# Altium footprint library IC_Microchip_Technology_-_Atmel_AT24CM01-XHM-T_eec_0.PcbLib: 1 footprints
Each footprint in its own frame and in the unit in brackets; x right, y up, seen from the top. Pads: shape width x height; smd on the part's side, far side on the other; paste and mask are expansions set on the pad; w line width, h text height; cw(c..) or ccw(c..) is an arc to the next point about the centre after c.
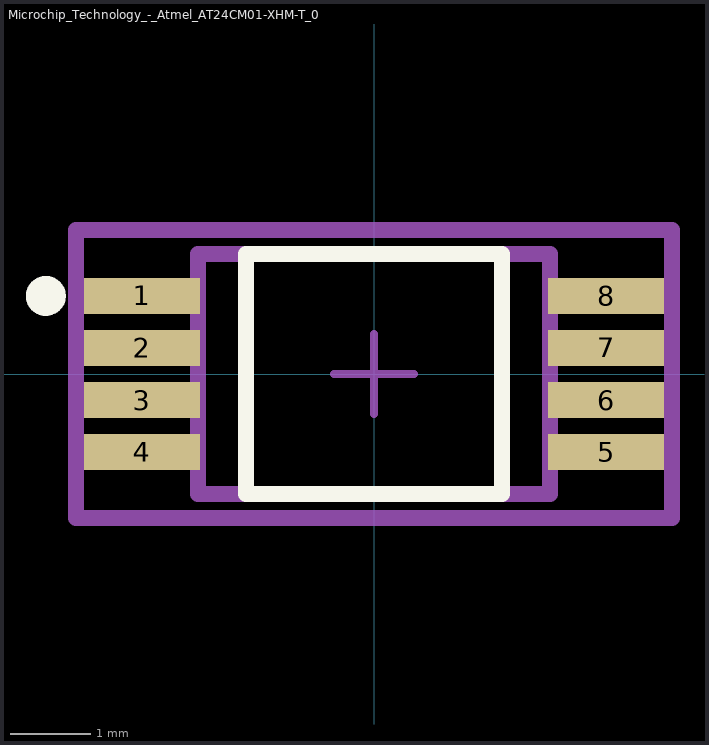
[diagram p0: the footprint, top view; thin cyan lines are the x and y axes]

## Microchip_Technology_-_Atmel_AT24CM01-XHM-T_0 [mm]
pads (8):
  rect 1.45x0.45 smd paste+0 mask+0: 1(-2.9,0.975) 2(-2.9,0.325) 3(-2.9,-0.325) 4(-2.9,-0.975) 5(2.9,-0.975) 6(2.9,-0.325) 7(2.9,0.325) 8(2.9,0.975)
Top Overlay:
  circle w0.25: c-4.1,0.975 r0.125
  lines w0.2: -1.6,-1.5 1.6,-1.5 1.6,1.5 -1.6,1.5 -1.6,-1.5
Mechanical 10:
  lines w0.2: -3.725,-1.8 3.725,-1.8 3.725,1.8 -3.725,1.8 -3.725,-1.8
  text ".Designator" at 0,0.188 h1
Mechanical 12:
  lines w0.2: -2.2,-1.5 2.2,-1.5 2.2,1.5 -2.2,1.5 -2.2,-1.5
Mechanical 15:
  lines w0.1: -0.5,0 0.5,0 -0.5,0 ; 0,-0.5 0,0.5 0,-0.5
  lines w0.2: -3.725,-1.8 3.725,-1.8 3.725,1.8 -3.725,1.8 -3.725,-1.8
3D body "IC_Microchip_Technology_-_Atmel_AT24CM01-XHM-T_eec.STEP": height 0.25, standoff 0, extent -3.725,-1.8 3.725,1.8